# Altium schematic symbol library RA-08H.SchLib: 2 symbols
Pins are listed as number, name and electrical type; pins without a type are passive.

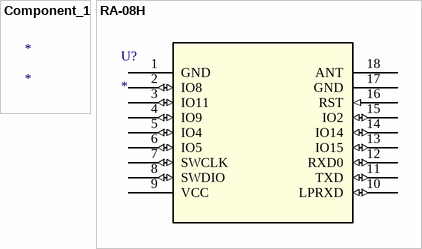
[diagram p0: symbols Component_1 to RA-08H]

## Component_1
designator *

## RA-08H
designator U?
No Description Available; Mfr_Name: Ai-Thinker; Type: RF; RefDes: RefDes
footprint MOD18_RA-08H_AIT
pins: 1 GND (power), 2 IO8 (io), 3 IO11 (io), 4 IO9 (io), 5 IO4 (io), 6 IO5 (io), 7 SWCLK (io), 8 SWDIO (io), 9 VCC (power), 10 LPRXD (io), 11 TXD (io), 12 RXD0 (io), 13 IO15 (io), 14 IO14 (io), 15 IO2 (io), 16 RST (in), 17 GND (power), 18 ANT